# EAGLE library part FL10 (library trafo)
TRANSFORMER 2 primary winding, 2 secondary windings, mounting holes BLOCK
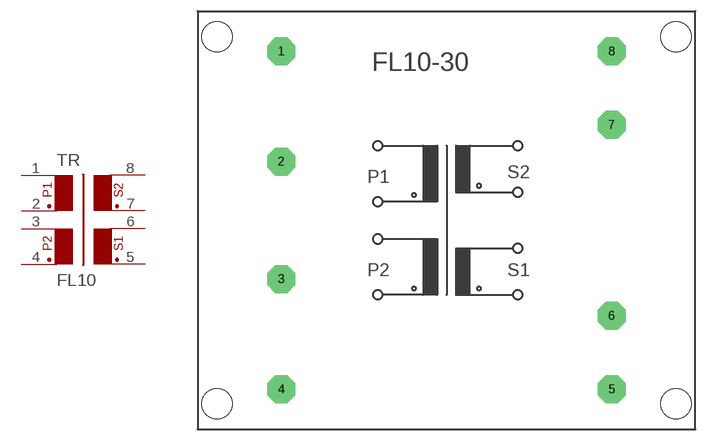
[diagram p18: symbol with the pads of FL10-30; footprint FL10-30]

Designator prefix TR

## FL10  [FL10-30]
1  1  pas
2  2  pas
3  3  pas
4  4  pas
5  5  pas
6  6  pas
7  7  pas
8  8  pas

## Footprint FL10-30 (pad centres in mm)
TRANSFORMER 2 primary winding, 2 secondary windings, mounting holes
drill 1.194 pad 3.81 octagon: 1 -22.504,23.012; 2 -22.504,8.001; 3 -22.504,-8.001; 4 -22.504,-23.012; 5 22.504,-23.012; 6 22.504,-13.005; 7 22.504,13.005; 8 22.504,23.012
hole 4.115 at -31.267,24.994
hole 4.115 at 31.267,24.994
hole 4.115 at 31.267,-24.994
hole 4.115 at -31.267,-24.994